# EAGLE library part XC2S200PQ208 (library xilinx_spartan2e)
Xilinx FPGA Spartan II XC2S200 PQFP 208 Created by Colin O'Flynn [coflynn@newae.com] This part has been used extensively in real life, and should be correct!
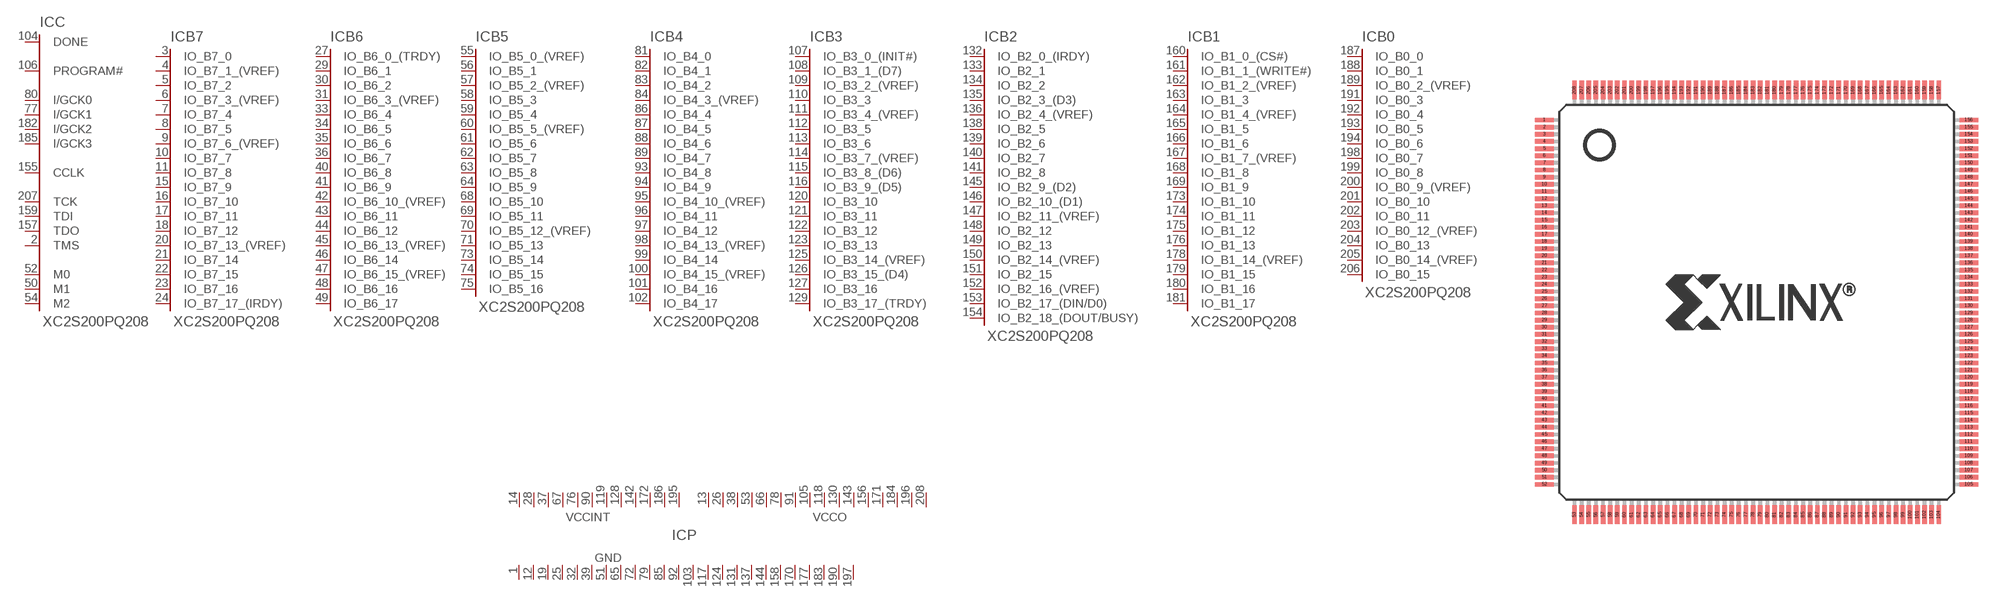
[diagram p0: symbol with the pads of PQ208; footprint PQ208]

Designator prefix IC; gates P=PWR_XC2S200 B7=XC2S_B7 B6=XC2S_B6 B4=XC2S_B4 B3=XC2S_B3 B2=XC2S_B2 B1=XC2S_B1 B0=XC2S_B0 B5=XC2S_B5 C=XC2S_C

## XC2S200PQ208"  [PQ208]
1  P:GND  pwr
2  C:TMS
3  B7:IO_B7_0
4  B7:IO_B7_1_(VREF)
5  B7:IO_B7_2
6  B7:IO_B7_3_(VREF)
7  B7:IO_B7_4
8  B7:IO_B7_5
9  B7:IO_B7_6_(VREF)
10  B7:IO_B7_7
11  B7:IO_B7_8
12  P:GND  pwr
13  P:VCCO  pwr
14  P:VCCINT  pwr
15  B7:IO_B7_9
16  B7:IO_B7_10
17  B7:IO_B7_11
18  B7:IO_B7_12
19  P:GND  pwr
20  B7:IO_B7_13_(VREF)
21  B7:IO_B7_14
22  B7:IO_B7_15
23  B7:IO_B7_16
24  B7:IO_B7_17_(IRDY)
25  P:GND  pwr
26  P:VCCO  pwr
27  B6:IO_B6_0_(TRDY)
28  P:VCCINT  pwr
29  B6:IO_B6_1
30  B6:IO_B6_2
31  B6:IO_B6_3_(VREF)
32  P:GND  pwr
33  B6:IO_B6_4
34  B6:IO_B6_5
35  B6:IO_B6_6
36  B6:IO_B6_7
37  P:VCCINT  pwr
38  P:VCCO  pwr
39  P:GND  pwr
40  B6:IO_B6_8
41  B6:IO_B6_9
42  B6:IO_B6_10_(VREF)
43  B6:IO_B6_11
44  B6:IO_B6_12
45  B6:IO_B6_13_(VREF)
46  B6:IO_B6_14
47  B6:IO_B6_15_(VREF)
48  B6:IO_B6_16
49  B6:IO_B6_17
50  C:M1  in
51  P:GND  pwr
52  C:M0  in
53  P:VCCO  pwr
54  C:M2  in
55  B5:IO_B5_0_(VREF)
56  B5:IO_B5_1
57  B5:IO_B5_2_(VREF)
58  B5:IO_B5_3
59  B5:IO_B5_4
60  B5:IO_B5_5_(VREF)
61  B5:IO_B5_6
62  B5:IO_B5_7
63  B5:IO_B5_8
64  B5:IO_B5_9
65  P:GND  pwr
66  P:VCCO  pwr
67  P:VCCINT  pwr
68  B5:IO_B5_10
69  B5:IO_B5_11
70  B5:IO_B5_12_(VREF)
71  B5:IO_B5_13
72  P:GND  pwr
73  B5:IO_B5_14
74  B5:IO_B5_15
75  B5:IO_B5_16
76  P:VCCINT  pwr
77  C:I/GCK1
78  P:VCCO  pwr
79  P:GND  pwr
80  C:I/GCK0
81  B4:IO_B4_0
82  B4:IO_B4_1
83  B4:IO_B4_2
84  B4:IO_B4_3_(VREF)
85  P:GND  pwr
86  B4:IO_B4_4
87  B4:IO_B4_5
88  B4:IO_B4_6
89  B4:IO_B4_7
90  P:VCCINT  pwr
91  P:VCCO  pwr
92  P:GND  pwr
93  B4:IO_B4_8
94  B4:IO_B4_9
95  B4:IO_B4_10_(VREF)
96  B4:IO_B4_11
97  B4:IO_B4_12
98  B4:IO_B4_13_(VREF)
99  B4:IO_B4_14
100  B4:IO_B4_15_(VREF)
101  B4:IO_B4_16
102  B4:IO_B4_17
103  P:GND  pwr
104  C:DONE
105  P:VCCO  pwr
106  C:PROGRAM#
107  B3:IO_B3_0_(INIT#)
108  B3:IO_B3_1_(D7)
109  B3:IO_B3_2_(VREF)
110  B3:IO_B3_3
111  B3:IO_B3_4_(VREF)
112  B3:IO_B3_5
113  B3:IO_B3_6
114  B3:IO_B3_7_(VREF)
115  B3:IO_B3_8_(D6)
116  B3:IO_B3_9_(D5)
117  P:GND  pwr
118  P:VCCO  pwr
119  P:VCCINT  pwr
120  B3:IO_B3_10
121  B3:IO_B3_11
122  B3:IO_B3_12
123  B3:IO_B3_13
124  P:GND  pwr
125  B3:IO_B3_14_(VREF)
126  B3:IO_B3_15_(D4)
127  B3:IO_B3_16
128  P:VCCINT  pwr
129  B3:IO_B3_17_(TRDY)
130  P:VCCO  pwr
131  P:GND  pwr
132  B2:IO_B2_0_(IRDY)
133  B2:IO_B2_1
134  B2:IO_B2_2
135  B2:IO_B2_3_(D3)
136  B2:IO_B2_4_(VREF)
137  P:GND  pwr
138  B2:IO_B2_5
139  B2:IO_B2_6
140  B2:IO_B2_7
141  B2:IO_B2_8
142  P:VCCINT  pwr
143  P:VCCO  pwr
144  P:GND  pwr
145  B2:IO_B2_9_(D2)
146  B2:IO_B2_10_(D1)
147  B2:IO_B2_11_(VREF)
148  B2:IO_B2_12
149  B2:IO_B2_13
150  B2:IO_B2_14_(VREF)
151  B2:IO_B2_15
152  B2:IO_B2_16_(VREF)
153  B2:IO_B2_17_(DIN/D0)
154  B2:IO_B2_18_(DOUT/BUSY)
155  C:CCLK
156  P:VCCO  pwr
157  C:TDO
158  P:GND  pwr
159  C:TDI
160  B1:IO_B1_0_(CS#)
161  B1:IO_B1_1_(WRITE#)
162  B1:IO_B1_2_(VREF)
163  B1:IO_B1_3
164  B1:IO_B1_4_(VREF)
165  B1:IO_B1_5
166  B1:IO_B1_6
167  B1:IO_B1_7_(VREF)
168  B1:IO_B1_8
169  B1:IO_B1_9
170  P:GND  pwr
171  P:VCCO  pwr
172  P:VCCINT  pwr
173  B1:IO_B1_10
174  B1:IO_B1_11
175  B1:IO_B1_12
176  B1:IO_B1_13
177  P:GND  pwr
178  B1:IO_B1_14_(VREF)
179  B1:IO_B1_15
180  B1:IO_B1_16
181  B1:IO_B1_17
182  C:I/GCK2
183  P:GND  pwr
184  P:VCCO  pwr
185  C:I/GCK3
186  P:VCCINT  pwr
187  B0:IO_B0_0
188  B0:IO_B0_1
189  B0:IO_B0_2_(VREF)
190  P:GND  pwr
191  B0:IO_B0_3
192  B0:IO_B0_4
193  B0:IO_B0_5
194  B0:IO_B0_6
195  P:VCCINT  pwr
196  P:VCCO  pwr
197  P:GND  pwr
198  B0:IO_B0_7
199  B0:IO_B0_8
200  B0:IO_B0_9_(VREF)
201  B0:IO_B0_10
202  B0:IO_B0_11
203  B0:IO_B0_12_(VREF)
204  B0:IO_B0_13
205  B0:IO_B0_14_(VREF)
206  B0:IO_B0_15
207  C:TCK
208  P:VCCO  pwr

## Footprint PQ208 (pad centres in mm)
smd 1.3 x 0.32: 1 -14.85,12.75; 2 -14.85,12.25; 3 -14.85,11.75; 4 -14.85,11.25; 5 -14.85,10.75; 6 -14.85,10.25; 7 -14.85,9.75; 8 -14.85,9.25; 9 -14.85,8.75; 10 -14.85,8.25; 11 -14.85,7.75; 12 -14.85,7.25; 13 -14.85,6.75; 14 -14.85,6.25; 15 -14.85,5.75; 16 -14.85,5.25; 17 -14.85,4.75; 18 -14.85,4.25; 19 -14.85,3.75; 20 -14.85,3.25; 21 -14.85,2.75; 22 -14.85,2.25; 23 -14.85,1.75; 24 -14.85,1.25; 25 -14.85,0.75; 26 -14.85,0.25; 27 -14.85,-0.25; 28 -14.85,-0.75; 29 -14.85,-1.25; 30 -14.85,-1.75; 31 -14.85,-2.25; 32 -14.85,-2.75; 33 -14.85,-3.25; 34 -14.85,-3.75; 35 -14.85,-4.25; 36 -14.85,-4.75; 37 -14.85,-5.25; 38 -14.85,-5.75; 39 -14.85,-6.25; 40 -14.85,-6.75; 41 -14.85,-7.25; 42 -14.85,-7.75; 43 -14.85,-8.25; 44 -14.85,-8.75; 45 -14.85,-9.25; 46 -14.85,-9.75; 47 -14.85,-10.25; 48 -14.85,-10.75; 49 -14.85,-11.25; 50 -14.85,-11.75; 51 -14.85,-12.25; 52 -14.85,-12.75; 105 14.85,-12.75; 106 14.85,-12.25; 107 14.85,-11.75; 108 14.85,-11.25; 109 14.85,-10.75; 110 14.85,-10.25; 111 14.85,-9.75; 112 14.85,-9.25; 113 14.85,-8.75; 114 14.85,-8.25; 115 14.85,-7.75; 116 14.85,-7.25; 117 14.85,-6.75; 118 14.85,-6.25; 119 14.85,-5.75; 120 14.85,-5.25; 121 14.85,-4.75; 122 14.85,-4.25; 123 14.85,-3.75; 124 14.85,-3.25; 125 14.85,-2.75; 126 14.85,-2.25; 127 14.85,-1.75; 128 14.85,-1.25; 129 14.85,-0.75; 130 14.85,-0.25; 131 14.85,0.25; 132 14.85,0.75; 133 14.85,1.25; 134 14.85,1.75; 135 14.85,2.25; 136 14.85,2.75; 137 14.85,3.25; 138 14.85,3.75; 139 14.85,4.25; 140 14.85,4.75; 141 14.85,5.25; 142 14.85,5.75; 143 14.85,6.25; 144 14.85,6.75; 145 14.85,7.25; 146 14.85,7.75; 147 14.85,8.25; 148 14.85,8.75; 149 14.85,9.25; 150 14.85,9.75; 151 14.85,10.25; 152 14.85,10.75; 153 14.85,11.25; 154 14.85,11.75; 155 14.85,12.25; 156 14.85,12.75
smd 0.32 x 1.3: 53 -12.75,-14.85; 54 -12.25,-14.85; 55 -11.75,-14.85; 56 -11.25,-14.85; 57 -10.75,-14.85; 58 -10.25,-14.85; 59 -9.75,-14.85; 60 -9.25,-14.85; 61 -8.75,-14.85; 62 -8.25,-14.85; 63 -7.75,-14.85; 64 -7.25,-14.85; 65 -6.75,-14.85; 66 -6.25,-14.85; 67 -5.75,-14.85; 68 -5.25,-14.85; 69 -4.75,-14.85; 70 -4.25,-14.85; 71 -3.75,-14.85; 72 -3.25,-14.85; 73 -2.75,-14.85; 74 -2.25,-14.85; 75 -1.75,-14.85; 76 -1.25,-14.85; 77 -0.75,-14.85; 78 -0.25,-14.85; 79 0.25,-14.85; 80 0.75,-14.85; 81 1.25,-14.85; 82 1.75,-14.85; 83 2.25,-14.85; 84 2.75,-14.85; 85 3.25,-14.85; 86 3.75,-14.85; 87 4.25,-14.85; 88 4.75,-14.85; 89 5.25,-14.85; 90 5.75,-14.85; 91 6.25,-14.85; 92 6.75,-14.85; 93 7.25,-14.85; 94 7.75,-14.85; 95 8.25,-14.85; 96 8.75,-14.85; 97 9.25,-14.85; 98 9.75,-14.85; 99 10.25,-14.85; 100 10.75,-14.85; 101 11.25,-14.85; 102 11.75,-14.85; 103 12.25,-14.85; 104 12.75,-14.85; 157 12.75,14.85; 158 12.25,14.85; 159 11.75,14.85; 160 11.25,14.85; 161 10.75,14.85; 162 10.25,14.85; 163 9.75,14.85; 164 9.25,14.85; 165 8.75,14.85; 166 8.25,14.85; 167 7.75,14.85; 168 7.25,14.85; 169 6.75,14.85; 170 6.25,14.85; 171 5.75,14.85; 172 5.25,14.85; 173 4.75,14.85; 174 4.25,14.85; 175 3.75,14.85; 176 3.25,14.85; 177 2.75,14.85; 178 2.25,14.85; 179 1.75,14.85; 180 1.25,14.85; 181 0.75,14.85; 182 0.25,14.85; 183 -0.25,14.85; 184 -0.75,14.85; 185 -1.25,14.85; 186 -1.75,14.85; 187 -2.25,14.85; 188 -2.75,14.85; 189 -3.25,14.85; 190 -3.75,14.85; 191 -4.25,14.85; 192 -4.75,14.85; 193 -5.25,14.85; 194 -5.75,14.85; 195 -6.25,14.85; 196 -6.75,14.85; 197 -7.25,14.85; 198 -7.75,14.85; 199 -8.25,14.85; 200 -8.75,14.85; 201 -9.25,14.85; 202 -9.75,14.85; 203 -10.25,14.85; 204 -10.75,14.85; 205 -11.25,14.85; 206 -11.75,14.85; 207 -12.25,14.85; 208 -12.75,14.85